# EAGLE library part TCA6416 (library Portxexpander)
Name des Bauteiles: -->TCA6416 Daten:• Operating Power-Supply Voltage Range of • 5-V Tolerant I/O Ports 1.65 V to 5.5 V • Active-Low Reset Input (RESET) • Allows Bidirectional Voltage-Level Translation • Open-Drain Active-Low Interrupt Output (INT) and GPIO Expansion Between: • 400-kHz Fast I2C Bus – 1.8-V SCL/SDA and • Input/Output Configuration Register 1.8-V, 2.5-V, 3.3-V, or 5-V P Port • Polarity Inversion Register – 2.5-V SCL/SDA and 1.8-V, 2.5-V, 3.3-V, or 5-V P Port • Internal Power-On Reset – 3.3-V SCL/SDA and • Power Up With All Channels Configured as 1.8-V, 2.5-V, 3.3-V, or 5-V P Port Inputs – 5-V SCL/SDA and • No Glitch On Power Up 1.8-V, 2.5-V, 3.3-V, or 5-V P Port • Noise Filter on SCL/SDA Inputs • I2C to Parallel Port Expander • Latched Outputs With High-Current Drive • Low Standby Current Consumption of 3 μA Maximum Capability for Directly Driving LEDs • Schmitt-Trigger Action Allows Slow Input • Latch-Up Performance Exceeds 100 mA Per Transition and Better Switching Noise JESD 78, Class II Immunity at the SCL and SDA Inputs • ESD Protection Exceeds JESD 22 – Vhys = 0.18 V Typ at 1.8 V – 2000-V Human-Body Model (A114-A) – Vhys = 0.25 V Typ at 2.5 V – 200-V Machine Model (A115-A) – Vhys = 0.33 V Typ at 3.3 V – 1000-V Charged-Device Model (C101) – Vhys = 0.5 V Typ at 5 V Artikelnummer:#045387 Datenblatt:Siehe Hesch Suche ! __________________________________________ generated by Eagle Description Tool am : 12.11.2014 11:47:13 erstellt von: Hm
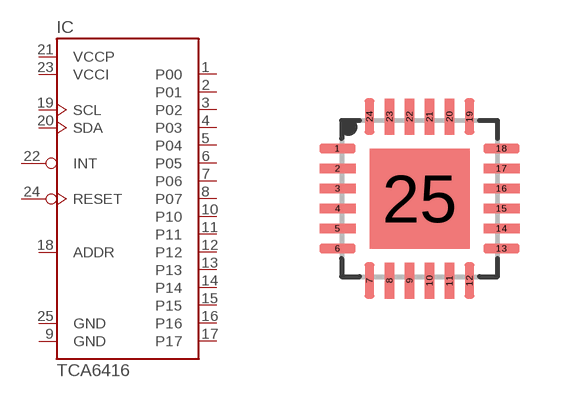
[diagram p0: symbol with the pads of S-PWQFN-N24; footprint S-PWQFN-N24]

Designator prefix IC

## TCA6416ARTWR  [S-PWQFN-N24]
1  P00
2  P01
3  P02
4  P03
5  P04
6  P05
7  P06
8  P07
9  GND
10  P10
11  P11
12  P12
13  P13
14  P14
15  P15
16  P16
17  P17
18  ADDR
19  SCL
20  SDA
21  VCCP
22  INT
23  VCCI
24  RESET
25  GND

## Footprint S-PWQFN-N24 (pad centres in mm)
smd 0.9 x 0.24: 1 -2.05,1.25; 2 -2.05,0.75; 3 -2.05,0.25; 4 -2.05,-0.25; 5 -2.05,-0.75; 6 -2.05,-1.25; 13 2.05,-1.25; 14 2.05,-0.75; 15 2.05,-0.25; 16 2.05,0.25; 17 2.05,0.75; 18 2.05,1.25
smd 0.24 x 0.9: 7 -1.25,-2.05; 8 -0.75,-2.05; 9 -0.25,-2.05; 10 0.25,-2.05; 11 0.75,-2.05; 12 1.25,-2.05; 19 1.25,2.05; 20 0.75,2.05; 21 0.25,2.05; 22 -0.25,2.05; 23 -0.75,2.05; 24 -1.25,2.05
smd 2.5 x 2.5: 25 0,0